# Altium footprint library PCB1.PcbLib: 14 footprints
Each footprint in its own frame and in the unit in brackets; x right, y up, seen from the top. Pads: shape width x height; smd on the part's side, far side on the other; paste and mask are expansions set on the pad; w line width, h text height; cw(c..) or ccw(c..) is an arc to the next point about the centre after c.
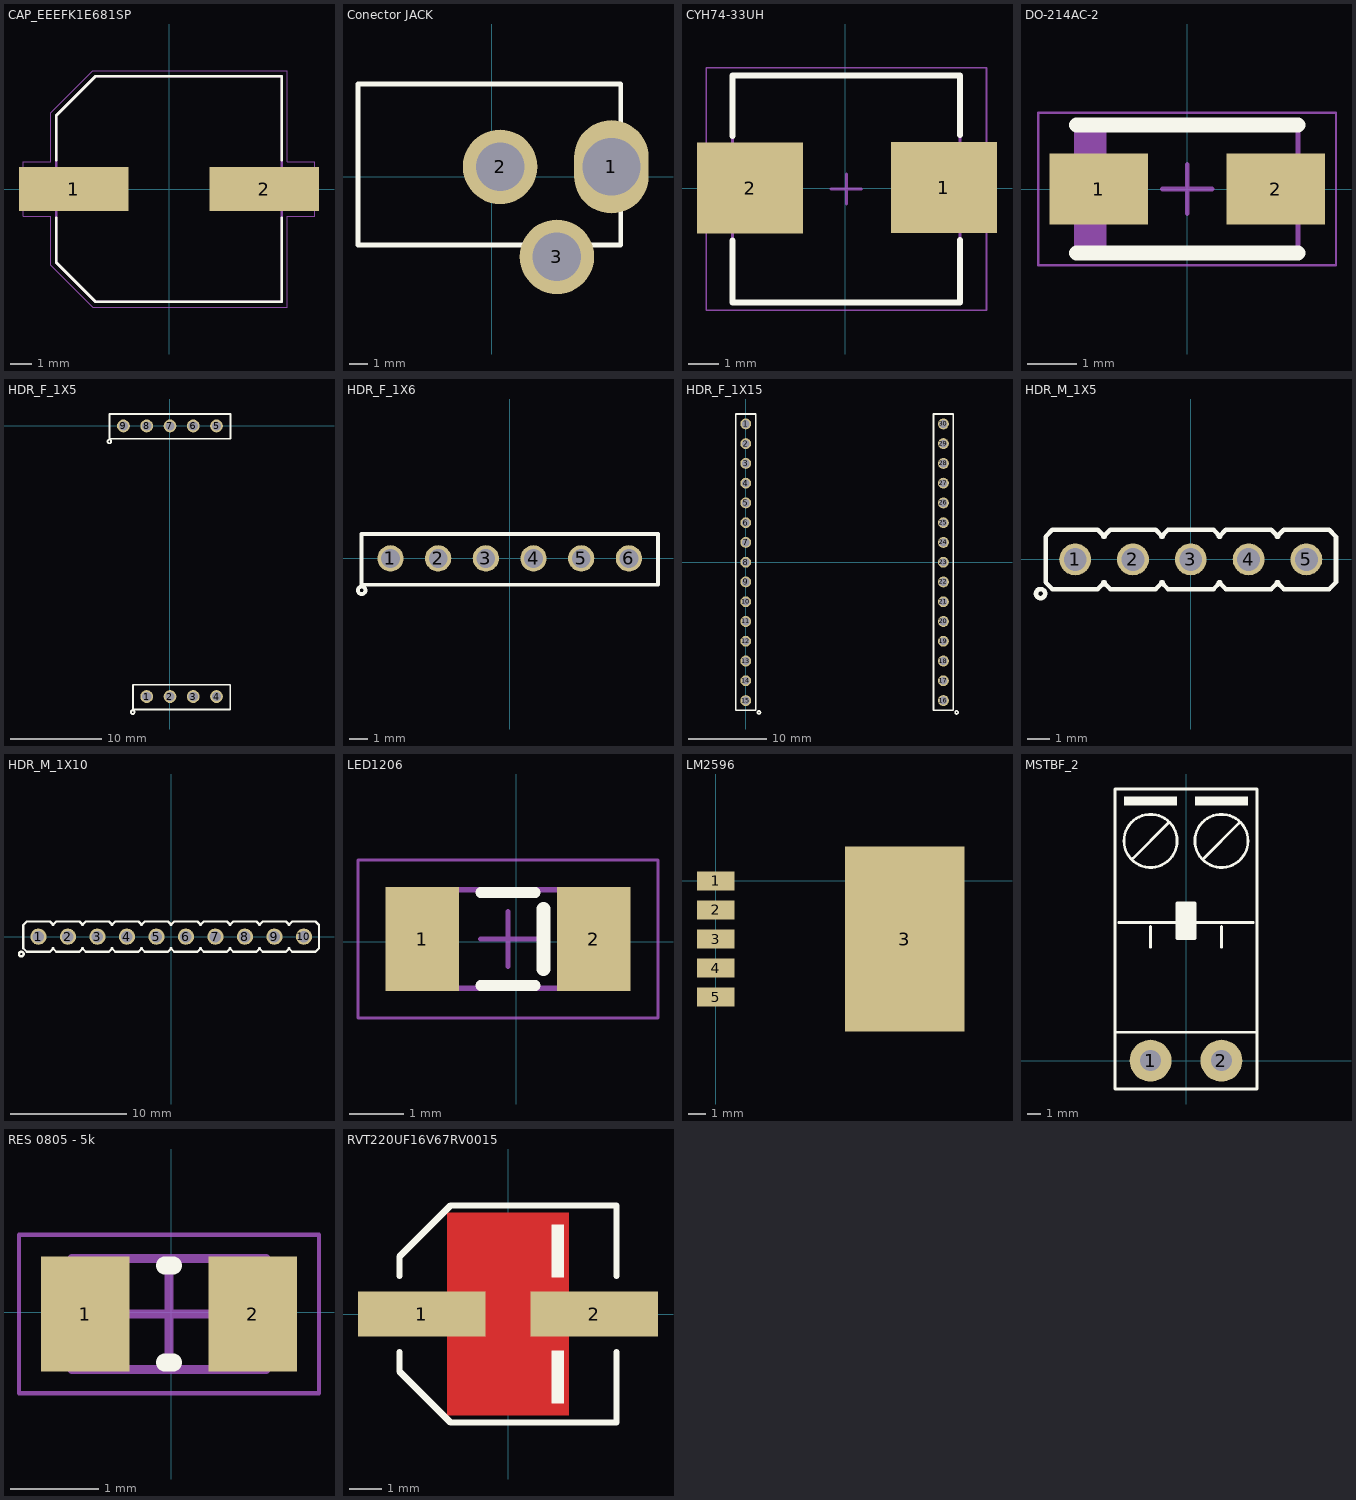
[diagram p0: the footprints below, top view; thin cyan lines are the x and y axes]

## CAP_EEEFK1E681SP [mm]
pads (2):
  rect 5x2 smd: 1(-4.35,0) 2(4.35,0)
Top Overlay:
  lines w0.127: -5.15,-1.32 -5.15,-3.35 -3.35,-5.15 5.15,-5.15 5.15,-1.32 ; -5.15,1.32 -5.15,3.35 -3.35,5.15 5.15,5.15 5.15,1.32
Bottom Overlay:
  circle w0.2: c-6.3,2.1 r0.1
  circle w0.2: c-6.3,2.1 r0.1
Mechanical 13:
  lines w0.127: -5.15,-3.35 -5.15,3.35 -3.35,5.15 5.15,5.15 5.15,-5.15 -3.35,-5.15 -5.15,-3.35
Mechanical 15:
  lines w0.05: -6.65,-1.25 -5.4,-1.25 -5.4,-3.475 -3.475,-5.4 5.4,-5.4 5.4,-1.25 6.65,-1.25 6.65,1.25 5.4,1.25 5.4,5.4 -3.475,5.4 -5.4,3.475 -5.4,1.25 -6.65,1.25 -6.65,-1.25
3D body "step_temp.STEP": height 9.3, standoff -0.9, extent -5.85,-5.15 5.85,5.15

## Conector JACK [mm]
pads (3):
  oval 4x5 hole 3.1: 1(6.417,0.531)
  round 4 hole 2.6: 2(0.448,0.531) 3(3.496,-4.295)
Top Overlay:
  lines w0.254: 1.845,-3.66 -7.172,-3.66 -7.172,4.976 6.925,4.976 6.925,2.182 ; 5.147,-3.66 6.925,-3.66 6.925,-1.12
3D body "User Library-DC_Jack-1.step": height 11, standoff -3.5, extent -7.259,-4.469 7.141,5.031

## CYH74-33UH [mm]
pads (2):
  rect 3.5x3 smd: 1(3.25,0.02) 2(-3.15,0)
Top Overlay:
  lines w0.2: -3.722,-1.72 -3.722,-3.777 3.778,-3.777 3.778,-1.71 ; -3.722,1.73 -3.722,3.723 3.778,3.723 3.778,1.76
Mechanical 13:
  lines w0.1: -3.722,-3.777 3.778,-3.777 3.778,3.723 -3.722,3.723 -3.722,-3.777
Mechanical 15:
  lines w0.05: -4.597,-4.027 4.653,-4.027 4.653,3.973 -4.597,3.973 -4.597,-4.027
  lines w0.1: -0.472,-0.027 0.528,-0.027 ; 0.028,-0.527 0.028,0.473
3D body "CYH74-33UH.step": height 4.6, standoff 0, extent -3.822,-3.777 3.878,3.723

## DO-214AC-2 [mm]
pads (2):
  rect 2x1.45 smd: 1(-1.8,0) 2(1.8,0)
Top Overlay:
  lines w0.3: -2.25,-1.3 2.25,-1.3 ; -2.25,1.3 2.25,1.3
Bottom Overlay:
  circle w0.25: c-2.95,1.4 r0.125
Mechanical 13:
  rectangle: -2.249,-1.301 -1.644,1.299
  lines w0.1: -2.25,-1.3 -2.25,1.3 2.25,1.3 2.25,-1.3 -2.25,-1.3
Mechanical 15:
  lines w0.05: -3.025,-1.55 -3.025,1.55 3.025,1.55 3.025,-1.55 -3.025,-1.55
  lines w0.1: -0.5,0 0.5,0 ; 0,-0.5 0,0.5
3D body "DIOM4425X20N.step": height 2, standoff 0, extent -2.47,-1.3 2.47,1.3

## HDR_F_1X5 [mm]
pads (9):
  round 1.4 / inner round 1.4 / far side oval 1.4x2.2 hole 1 mask+0.1: 1(-2.54,-29.527) 2(0,-29.527) 3(2.54,-29.527) 4(5.08,-29.527) 5(5.08,0) 6(2.54,0) 7(0,0) 8(-2.54,0) 9(-5.08,0)
Top Overlay:
  circle w0.2: c-6.61,-1.7 r0.2
  circle w0.2: c-4.07,-31.227 r0.2
  lines w0.2: -6.6,-1.4 -6.6,1.3 6.6,1.3 6.6,-1.4 -6.6,-1.4 ; -4.03,-30.927 -4.03,-28.228 6.57,-28.228 6.57,-30.927 -4.03,-30.927
3D body "female_header_a-bl254-eg-g03d.stp": height 8.5, standoff -3.2, extent -6.475,-1.3 1.395,1.2
3D body "female_header_a-bl254-eg-g02d.stp": height 8.5, standoff -3.2, extent 1.145,-1.3 6.475,1.2
3D body "female_header_a-bl254-eg-g02d.stp": height 8.5, standoff -3.2, extent -3.935,-30.827 1.395,-28.327
3D body "female_header_a-bl254-eg-g02d.stp": height 8.5, standoff -3.2, extent 1.145,-30.827 6.475,-28.327
3D body "MH-Z19C.stp": height 20, standoff 2.9, extent -9.8,-31.35 9.9,1.55

## HDR_F_1X6 [mm]
pads (6):
  round 1.4 / inner round 1.4 / far side oval 1.4x2.2 hole 1 mask+0.1: 1(-6.35,0) 2(-3.81,0) 3(-1.27,0) 4(1.27,0) 5(3.81,0) 6(6.35,0)
Top Overlay:
  circle w0.2: c-7.88,-1.7 r0.2
  lines w0.2: -7.9,-1.4 7.9,-1.4 7.9,1.3 -7.9,1.3 -7.9,-1.4
3D body "female_header_a-bl254-eg-g03d.stp": height 8.5, standoff -3.2, extent -7.745,-1.3 0.125,1.2
3D body "female_header_a-bl254-eg-g03d.stp": height 8.5, standoff -3.2, extent -0.125,-1.3 7.745,1.2
3D body "P280, 6-PIN-Version v4.step": height 13.99, standoff 11.46, extent -7.69,-1.54 7.61,9.96
3D body "User Library-1x6 TH Pitch 2_54mm.STEP": height 14.85, standoff 2.15, extent -7.66,-1.33 7.58,1.21

## HDR_F_1X15 [mm]
pads (30):
  round 1.4 / inner round 1.4 / far side oval 2.2x1.4 hole 1: 1(0,17.78) 2(0,15.24) 3(0,12.7) 4(0,10.16) 5(0,7.62) 6(0,5.08) 7(0,2.54) 8(0,0) 9(0,-2.54) 10(0,-5.08) 11(0,-7.62) 12(0,-10.16) 13(0,-12.7) 14(0,-15.24) 15(0,-17.78) 16(25.4,-17.78) 17(25.4,-15.24) 18(25.4,-12.7) 19(25.4,-10.16) 20(25.4,-7.62) 21(25.4,-5.08) 22(25.4,-2.54) 23(25.4,0) 24(25.4,2.54) 25(25.4,5.08) 26(25.4,7.62) 27(25.4,10.16) 28(25.4,12.7) 29(25.4,15.24) 30(25.4,17.78)
Top Overlay:
  circle w0.2: c1.7,-19.31 r0.2
  circle w0.2: c27.1,-19.31 r0.2
  lines w0.2: -1.27,-19.05 -1.27,19.05 1.27,19.05 1.27,-19.05 -1.27,-19.05 ; 24.13,-19.05 24.13,19.05 26.67,19.05 26.67,-19.05 24.13,-19.05
3D body "PBD-2.stp": height 8.5, standoff -3.15, extent -1.27,11.43 1.27,16.51
3D body "PBD-2.stp": height 8.5, standoff -3.15, extent -1.27,6.35 1.27,11.43
3D body "PBD-2.stp": height 8.5, standoff -3.15, extent -1.27,1.27 1.27,6.35
3D body "PBD-2.stp": height 8.5, standoff -3.15, extent -1.27,-3.81 1.27,1.27
3D body "PBD-2.stp": height 8.5, standoff -3.15, extent -1.27,-8.89 1.27,-3.81
3D body "PBD-2.stp": height 8.5, standoff -3.15, extent -1.27,-13.97 1.27,-8.89
3D body "PBD-2.stp": height 8.5, standoff -3.15, extent -1.27,-19.05 1.27,-13.97
3D body "PBS-1.stp": height 8.5, standoff -3.15, extent -1.27,16.51 1.27,19.05
3D body "PBD-2.stp": height 8.5, standoff -3.15, extent 24.13,11.43 26.67,16.51
3D body "PBD-2.stp": height 8.5, standoff -3.15, extent 24.13,6.35 26.67,11.43
3D body "PBD-2.stp": height 8.5, standoff -3.15, extent 24.13,1.27 26.67,6.35
3D body "PBD-2.stp": height 8.5, standoff -3.15, extent 24.13,-3.81 26.67,1.27
3D body "PBD-2.stp": height 8.5, standoff -3.15, extent 24.13,-8.89 26.67,-3.81
3D body "PBD-2.stp": height 8.5, standoff -3.15, extent 24.13,-13.97 26.67,-8.89
3D body "PBD-2.stp": height 8.5, standoff -3.15, extent 24.13,-19.05 26.67,-13.97
3D body "PBS-1.stp": height 8.5, standoff -3.15, extent 24.13,16.51 26.67,19.05
3D body "esp32_dev_kit_v1_asm.stp": height 15.47, standoff 0.46, extent -1.4,-27.55 26.75,23.95

## HDR_M_1X5 [mm]
pads (5):
  round 1.4 / inner round 1.4 / far side oval 1.4x2.2 hole 1 mask+0.1: 1(-5.08,0) 2(-2.54,0) 3(0,0) 4(2.54,0) 5(5.08,0)
Top Overlay:
  circle w0.2: c-6.6,-1.5 r0.2
  lines w0.2: -3.84,-1 -3.54,-1.3 -1.54,-1.3 -1.24,-1 ; -3.84,1 -3.54,1.3 -1.54,1.3 -1.24,1 ; -3.78,-1 -4.08,-1.3 -6.08,-1.3 -6.38,-1 -6.38,1 -6.08,1.3 -4.08,1.3 -3.78,1 ; -1.3,-1 -1,-1.3 1,-1.3 1.3,-1 ; -1.3,1 -1,1.3 1,1.3 1.3,1 ; 1.24,-1 1.54,-1.3 3.54,-1.3 3.84,-1 ; 1.24,1 1.54,1.3 3.54,1.3 3.84,1 ; 3.78,-1 4.08,-1.3 6.08,-1.3 6.38,-1 6.38,1 6.08,1.3 4.08,1.3 3.78,1
3D body "PLS-1.step": height 8.54, standoff -2.9, extent -3.81,-1.27 -1.27,1.27
3D body "PLS-1.step": height 8.54, standoff -2.9, extent -6.35,-1.27 -3.81,1.27
3D body "PLS-1.step": height 8.54, standoff -2.9, extent -1.27,-1.27 1.27,1.27
3D body "PLS-1.step": height 8.54, standoff -2.9, extent 1.27,-1.27 3.81,1.27
3D body "PLS-1.step": height 8.54, standoff -2.9, extent 3.81,-1.27 6.35,1.27

## HDR_M_1X10 [mm]
pads (10):
  round 1.4 / inner round 1.4 / far side oval 1.4x2.2 hole 1 mask+0.1: 1(-11.43,0) 2(-8.89,0) 3(-6.35,0) 4(-3.81,0) 5(-1.27,0) 6(1.27,0) 7(3.81,0) 8(6.35,0) 9(8.89,0) 10(11.43,0)
Top Overlay:
  circle w0.2: c-12.9,-1.5 r0.2
  lines w0.2: -10.19,-1 -9.89,-1.3 -7.89,-1.3 -7.59,-1 ; -10.19,1 -9.89,1.3 -7.89,1.3 -7.59,1 ; -10.13,-1 -10.43,-1.3 -12.43,-1.3 -12.73,-1 -12.73,1 -12.43,1.3 -10.43,1.3 -10.13,1 ; -7.65,-1 -7.35,-1.3 -5.35,-1.3 -5.05,-1 ; -7.65,1 -7.35,1.3 -5.35,1.3 -5.05,1 ; -5.11,-1 -4.81,-1.3 -2.81,-1.3 -2.51,-1 ; -5.11,1 -4.81,1.3 -2.81,1.3 -2.51,1 ; -2.57,-1 -2.27,-1.3 -0.27,-1.3 0.03,-1 ; -2.57,1 -2.27,1.3 -0.27,1.3 0.03,1 ; -0.03,-1 0.27,-1.3 2.27,-1.3 2.57,-1 ; -0.03,1 0.27,1.3 2.27,1.3 2.57,1 ; 2.51,-1 2.81,-1.3 4.81,-1.3 5.11,-1 ; 2.51,1 2.81,1.3 4.81,1.3 5.11,1 ; 5.05,-1 5.35,-1.3 7.35,-1.3 7.65,-1 ; 5.05,1 5.35,1.3 7.35,1.3 7.65,1 ; 7.59,-1 7.89,-1.3 9.89,-1.3 10.19,-1 ; 7.59,1 7.89,1.3 9.89,1.3 10.19,1 ; 10.13,-1 10.43,-1.3 12.43,-1.3 12.73,-1 12.73,1 12.43,1.3 10.43,1.3 10.13,1
3D body "User Library-Header_Male_10Pin.STEP": height 8.54, standoff -3, extent -12.7,-1.3 12.7,1.19

## LED1206 [mm]
pads (2):
  rect 1.35x1.9 smd: 1(-1.725,0.05) 2(1.425,0.05)
Top Overlay:
  lines w0.2: -0.65,-0.8 0.35,-0.8 ; -0.65,0.9 0.35,0.9
  lines w0.254: 0.5,-0.5 0.5,0.6
Mechanical 13:
  lines w0.1: -1.85,-0.85 -1.85,0.95 1.55,0.95 1.55,-0.85 -1.85,-0.85
Mechanical 15:
  lines w0.05: -2.9,-1.4 -2.9,1.5 2.6,1.5 2.6,-1.4 -2.9,-1.4
  lines w0.1: -0.65,0.05 0.35,0.05 ; -0.15,-0.45 -0.15,0.55
3D body: height 0.4, standoff 0, extent -1.85,-0.85 -1.45,0.95
3D body: height 0.4, standoff 0, extent 1.15,-0.85 1.55,0.95
3D body "User Library-LTST-C230KGKT.step": height 1.1, standoff -0.01, extent -1.73,-0.75 1.53,0.85

## LM2596 [mm]
pads (6):
  rect 2.2x1.1 smd: 1(0,0) 2(0,-1.7) 3(0,-3.4) 4(0,-5.1) 5(0,-6.8)
  rect 7x10.8 smd: 3(11.05,-3.4)
3D body "User Library-TO-263-1.STEP": height 4.65, standoff -0.18, extent 0.231,-8.605 14.6,1.805

## MSTBF_2 [mm]
pads (2):
  round 3 hole 1.5: 1(-2.54,0) 2(2.54,0)
Top Overlay:
  circle w0.2: c2.54,15.748 r1.905
  circle w0.2: c-2.54,15.748 r1.905
  region: 0.635,11.303 -0.635,11.303 -0.635,8.763 0.635,8.763
  region: 4.445,18.923 0.635,18.923 0.635,18.288 4.445,18.288
  region: -0.635,18.923 -4.445,18.923 -4.445,18.288 -0.635,18.288
  lines w0.2: -5.08,2.032 5.08,2.032 ; -4.826,9.906 4.826,9.906 ; -3.81,14.478 -1.27,17.018 ; -2.54,8.128 -2.54,9.618 ; 1.27,14.478 3.81,17.018 ; 2.54,8.128 2.54,9.618 ; -5.08,-2.032 5.08,-2.032 5.08,19.468 -5.08,19.468 -5.08,-2.032 ; -0.635,8.763 0.635,8.763 0.635,11.303 -0.635,11.303 -0.635,8.763
3D body "PHOENIX_MSTB2W.stp": height 15, standoff 0, extent -5,1 5,19.2
3D body "PHOENIX_MSTB2.stp": height 8.6, standoff -3.5, extent -5,-2 5,10

## RES 0805 - 5k [mm]
pads (2):
  rect 1x1.3 smd: 1(-0.973,-0.019) 2(0.927,-0.019)
Top Overlay:
  lines w0.2: -0.073,-0.569 0.027,-0.569 ; -0.073,0.531 0.027,0.531
Mechanical 13:
  lines w0.1: -1.123,-0.649 -1.123,0.611 1.077,0.611 1.077,-0.649 -1.123,-0.649
Mechanical 15:
  lines w0.05: -1.723,-0.919 -1.723,0.881 1.677,0.881 1.677,-0.919 -1.723,-0.919
  lines w0.1: -0.523,-0.019 0.477,-0.019 ; -0.023,-0.519 -0.023,0.481
3D body "0805 - 5k.STEP": height 0.46, standoff 0, extent -1.01,-0.62 0.99,0.58

## RVT220UF16V67RV0015 [mm]
pads (2):
  rect 4x1.4 smd: 1(-2.7,0) 2(2.7,0)
Top Layer:
  pour cut-out: 1.905,3.175 1.905,-3.175 -1.905,-3.175 -1.905,3.175
Top Overlay:
  rectangle: 1.356,-2.8 1.756,-1.143
  rectangle: 1.356,1.143 1.756,2.8
  lines w0.2: -3.4,-1.2 -3.4,-1.8 -1.8,-3.4 3.4,-3.4 3.4,-1.2 ; -3.4,1.2 -3.4,1.8 -1.8,3.4 3.4,3.4 3.4,1.2
Bottom Overlay:
  lines w0.2: -2.9,-1.352 ccw(c0,0) 2.9,-1.352 ; -2.9,1.352 cw(c0,0) 2.9,1.352
3D body "6.3x7.7x2.2.stp": height 7.7, standoff 0, extent -3.65,-3.3 3.65,3.3